# EAGLE library part 0533980671 (library con-molex)
CONN HEADER 6POS 1.25MM VERT SMD
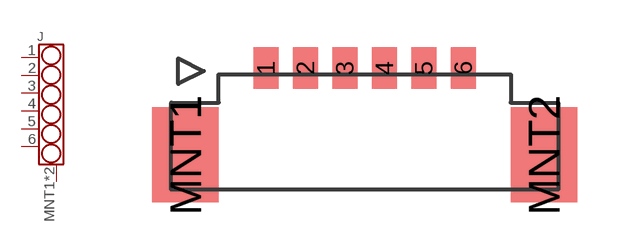
[diagram p4: symbol with the pads of 0533980671; footprint 0533980671]

Designator prefix J

## 0533980671 (DIGIKEY: WM7610CT-ND; MFR: Molex; MPN: 0533980671)  [0533980671]
1  1
2  2
3  3
4  4
5  5
6  6
MNT1  MNT
MNT2  MNT

## Footprint 0533980671 (pad centres in mm)
smd 0.8 x 1.3: 1 -3.125,0; 2 -1.875,0; 3 -0.625,0; 4 0.625,0; 5 1.875,0; 6 3.125,0
smd 2.1 x 3: MNT1 -5.675,-2.75; MNT2 5.675,-2.75